# Altium footprint library twentyfour.PcbLib: 2 footprints
Each footprint in its own frame and in the unit in brackets; x right, y up, seen from the top. Pads: shape width x height; smd on the part's side, far side on the other; paste and mask are expansions set on the pad; w line width, h text height; cw(c..) or ccw(c..) is an arc to the next point about the centre after c.
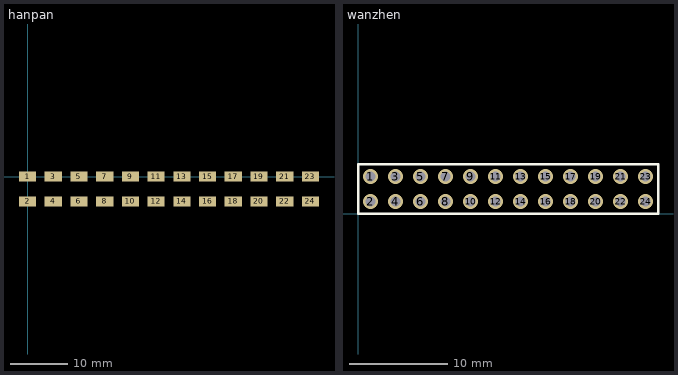
[diagram p0: the footprints below, top view; thin cyan lines are the x and y axes]

## hanpan [mm]
pads (24):
  rect 3x1.8 smd: 1(0,0) 2(0,-4.34) 3(4.5,0) 4(4.5,-4.34) 5(9,0) 6(9,-4.34) 7(13.5,0) 8(13.5,-4.34) 9(18,0) 10(18,-4.34) 11(22.5,0) 12(22.5,-4.34) 13(27,0) 14(27,-4.34) 15(31.5,0) 16(31.5,-4.34) 17(36,0) 18(36,-4.34) 19(40.5,0) 20(40.5,-4.34) 21(45,0) 22(45,-4.34) 23(49.5,0) 24(49.5,-4.34)

## wanzhen [mm]
pads (24):
  round 1.524 hole 1.05: 1(1.27,3.77) 2(1.27,1.23) 3(3.81,3.77) 4(3.81,1.23) 5(6.35,3.77) 6(6.35,1.23) 7(8.89,3.77) 8(8.89,1.23) 9(11.43,3.77) 10(11.43,1.23) 11(13.97,3.77) 12(13.97,1.23) 13(16.51,3.77) 14(16.51,1.23) 15(19.05,3.77) 16(19.05,1.23) 17(21.59,3.77) 18(21.59,1.23) 19(24.13,3.77) 20(24.13,1.23) 21(26.67,3.77) 22(26.67,1.23) 23(29.21,3.77) 24(29.21,1.23)
Top Overlay:
  lines w0.254: 0,0 30.48,0 30.48,2.5 30.48,5 0,5 0,2.5 0,0